# EAGLE library part DA3 (library dsantoro-discrete)
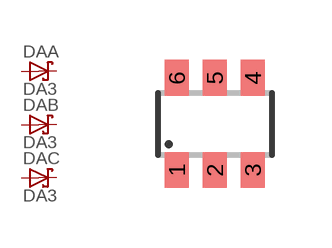
[diagram p0: symbol with the pads of SOT23-6; footprint SOT23-6]

Designator prefix DA; gates A=SCHOTTKY B=SCHOTTKY C=SCHOTTKY

## DA3  [SOT23-6]
1  A:A  pas
2  B:A  pas
3  C:A  pas
4  C:C  pas
5  B:C  pas
6  A:C  pas

## Footprint SOT23-6 (pad centres in mm)
Small Outline Transistor 6 lead
smd 0.6 x 0.9: 1 -0.95,-1.15; 2 0,-1.15; 3 0.95,-1.15; 4 0.95,1.15; 5 0,1.15; 6 -0.95,1.15